# EAGLE library part TPS6123X (library pimoroni-ics)
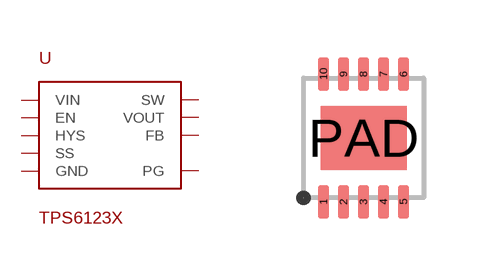
[diagram p32: symbol with the pads of VSON-10; footprint VSON-10]

Designator prefix -

## TPS6123X  [VSON-10]
1  SW
2  SW
3  VOUT
4  VOUT
5  PG
6  SS
7  FB
8  HYS
9  EN
10  VIN
PAD  GND

## Footprint VSON-10 (pad centres in mm)
smd 0.28 x 0.85: 1 -1,-1.6; 2 -0.5,-1.6; 3 0,-1.6; 4 0.5,-1.6; 5 1,-1.6; 6 1,1.6; 7 0.5,1.6; 8 0,1.6; 9 -0.5,1.6; 10 -1,1.6
smd 2.15 x 1.6: PAD 0,0